# Altium footprint library Passives.PcbLib: 24 footprints (part 2 of 2)
Each footprint in its own frame and in the unit in brackets; x right, y up, seen from the top. Pads: shape width x height; smd on the part's side, far side on the other; paste and mask are expansions set on the pad; w line width, h text height; cw(c..) or ccw(c..) is an arc to the next point about the centre after c.
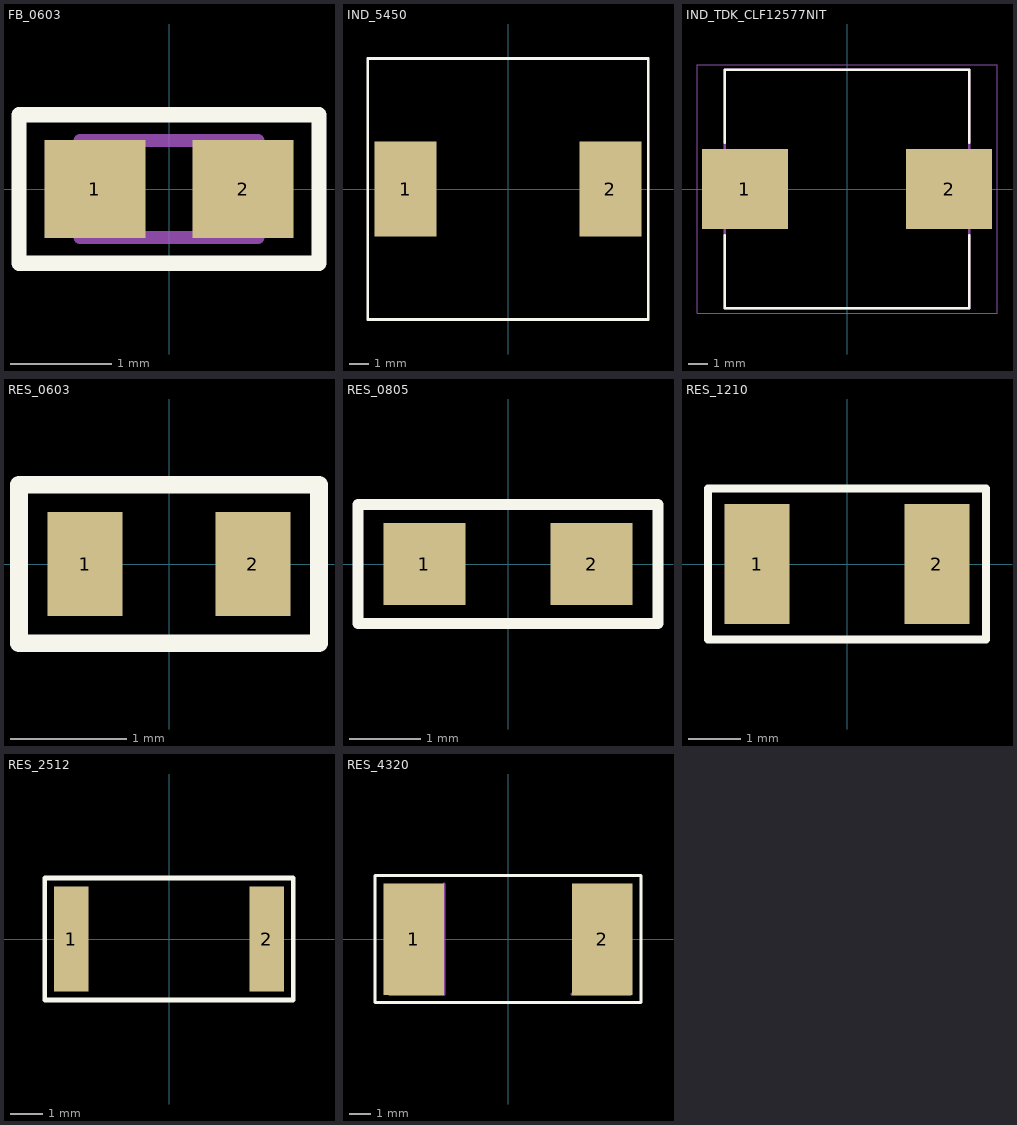
[diagram p1: the footprints below, top view; thin cyan lines are the x and y axes]

## FB_0603 [mm]
pads (2):
  rect 1x0.97 smd: 1(-0.735,0) 2(0.735,0)
Top Overlay:
  lines w0.152: -1.485,-0.735 1.485,-0.735 1.485,0.735 -1.485,0.735 -1.485,-0.735
3D Top:
  lines w0.127: -0.88,-0.48 0.88,-0.48 0.88,0.48 -0.88,0.48 -0.88,-0.48
3D body: height 0.4, standoff -0.4, extent -0.8,-0.48 0.8,0.47

## IND_5450 [mil]
pads (2):
  rect 128x197 smd: 1(-211.59,0) 2(211.59,0)
Top Overlay:
  lines w6: -290,-270 -290,270 290,270 290,-270 -290,-270
3D body: height 264.09, standoff 0, extent -275.59,-254.01 275.59,254.02

## IND_TDK_CLF12577NIT [mm]
height 8
pads (2):
  rect 4.5x4.2 smd: 1(-5.35,0) 2(5.35,0)
Top Overlay:
  lines w0.127: -6.4,-2.42 -6.4,-6.25 6.4,-6.25 6.4,-2.42 ; -6.4,2.42 -6.4,6.25 6.4,6.25 6.4,2.42
3D Top:
  lines w0.127: -6.4,-6.25 -6.4,6.25 6.4,6.25 6.4,-6.25 -6.4,-6.25
Courtyard Top:
  lines w0.05: -7.85,-6.5 -7.85,6.5 7.85,6.5 7.85,-6.5 -7.85,-6.5
3D body: height 8, standoff 0, extent -6.4,-6.25 6.4,6.25

## RES_0603 [mm]
pads (2):
  rect 0.65x0.9 smd: 1(-0.725,0) 2(0.725,0)
Top Overlay:
  lines w0.152: -1.295,-0.686 1.295,-0.686 1.295,0.686 -1.295,0.686 -1.295,-0.686
3D body: height 0.45, standoff 0, extent -0.8,-0.4 0.8,0.4

## RES_0805 [mm]
pads (2):
  rect 1.15x1.15 smd: 1(-1.175,0) 2(1.175,0)
Top Overlay:
  lines w0.152: -2.108,-0.838 -2.108,0.838 2.108,0.838 2.108,-0.838 -2.108,-0.838
3D body: height 0.6, standoff 0, extent -1,-0.625 1,0.625

## RES_1210 [mm]
pads (2):
  rect 1.25x2.3 smd: 1(-1.725,0) 2(1.725,0)
Top Overlay:
  lines w0.152: -2.667,-1.448 -2.667,1.448 2.667,1.448 2.667,-1.448 -2.667,-1.448
3D body: height 0.6, standoff 0, extent -1.6,-1.25 1.6,1.25

## RES_2512 [mm]
pads (2):
  rect 1.07x3.27 smd: 1(-3.055,0) 2(3.055,0)
Top Overlay:
  lines w0.152: -3.886,-1.905 -3.886,1.905 3.886,1.905 3.886,-1.905 -3.886,-1.905
3D body: height 0.75, standoff 0, extent -3.15,-1.55 3.15,1.55

## RES_4320 [mil]
pads (2):
  rect 114x209 smd: 1(-177.5,0) 2(177.5,0)
Top Overlay:
  lines w5.98: -250,-119 -250,120 250,120 250,-119
  lines w6: -250,-119 250,-119
Assembly Top:
  lines w6: -222.5,-103.5 -120.5,-103.5 -120.5,103.5 ; 120.5,-103.5 230.5,-103.5
3D body: height 47.01, standoff 0, extent -222.48,-103.5 222.48,103.51